# EAGLE library part TL084BCN (library TL084BCN)
Check availability <https://pricing.snapeda.com/parts/TL084BCN/Texas%20Instruments/view-part?ref=eda>
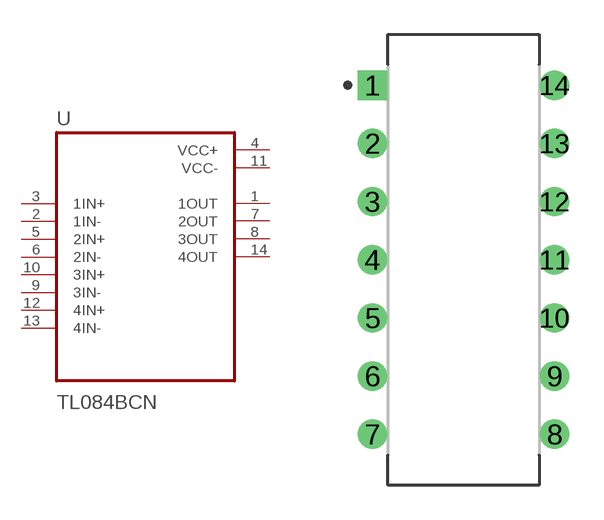
[diagram p0: symbol with the pads of DIP794W45P254L1969H508Q14; footprint DIP794W45P254L1969H508Q14]

Designator prefix U

## TL084BCN (Availability: In Stock; Check_prices: https://www.snapeda.com/parts/TL084BCN/Texas+Instruments/view-part/?ref=eda; Description: Quad, 30-V, 3-MHz, 13-V/µs slew rate, 3-mV offset voltage, In to V+, JFET-input op amp; MF: Texas Instruments; MP: TL084BCN; Package: PDIP-14 Texas Instruments; Price: None; Purchase-URL: https://www.snapeda.com/api/url_track_click_mouser/?unipart_id=565503&manufacturer=Texas Instruments&part_name=TL084BCN&search_term=tl084; SnapEDA_Link: https://www.snapeda.com/parts/TL084BCN/Texas+Instruments/view-part/?ref=snap)  [DIP794W45P254L1969H508Q14]
1  1OUT  out
2  1IN-  in
3  1IN+  in
4  VCC+  pwr
5  2IN+  in
6  2IN-  in
7  2OUT  out
8  3OUT  out
9  3IN-  in
10  3IN+  in
11  VCC-  pwr
12  4IN+  in
13  4IN-  in
14  4OUT  out

## Footprint DIP794W45P254L1969H508Q14 (pad centres in mm)
drill 0.77 pad 1.17 square: 1 -3.97,7.62
drill 0.77 pad 1.17: 2 -3.97,5.08; 3 -3.97,2.54; 4 -3.97,0; 5 -3.97,-2.54; 6 -3.97,-5.08; 7 -3.97,-7.62; 8 3.97,-7.62; 9 3.97,-5.08; 10 3.97,-2.54; 11 3.97,0; 12 3.97,2.54; 13 3.97,5.08; 14 3.97,7.62